# Altium footprint library AMETHERM_SL22 10009.PcbLib: 1 footprints
Each footprint in its own frame and in the unit in brackets; x right, y up, seen from the top. Pads: shape width x height; smd on the part's side, far side on the other; paste and mask are expansions set on the pad; w line width, h text height; cw(c..) or ccw(c..) is an arc to the next point about the centre after c.
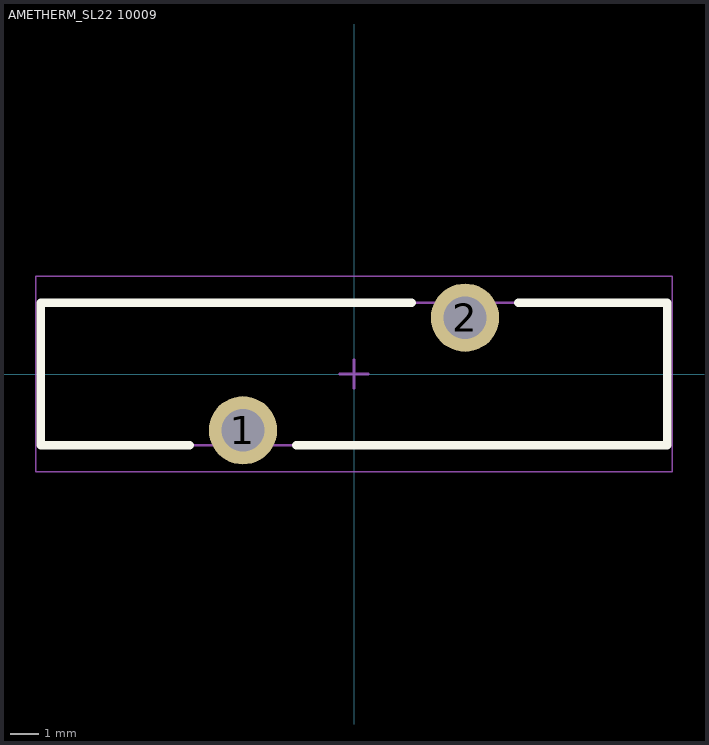
[diagram p0: the footprint, top view; thin cyan lines are the x and y axes]

## AMETHERM_SL22 10009 [mm]
height 25
pads (2):
  round 2.4 hole 1.5 mask+0.05: 1(-3.9,-1.98) 2(3.9,1.98)
Top Overlay:
  lines w0.3: -5.768,-2.5 -11,-2.5 -11,2.5 2.032,2.5 ; -2.032,-2.5 11,-2.5 11,2.5 5.768,2.5
Mechanical 13:
  lines w0.1: -11,-2.5 11,-2.5 11,2.5 -11,2.5 -11,-2.5
Mechanical 15:
  lines w0.05: -11.176,-3.429 -11.176,3.429 11.176,3.429 11.176,-3.429 -11.176,-3.429
  lines w0.1: -0.5,0 0.5,0 ; 0,-0.5 0,0.5
3D body: height 26, standoff 4, extent -11,-1.98 11,1.98